# Altium schematic symbol library test point.SchLib: 1 symbol
Pins are listed as number, name and electrical type; pins without a type are passive.

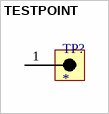
[diagram p0: symbol TESTPOINT]

## TESTPOINT
designator TP?
TEST POINT
footprint TESTPOINT (VERO - 20-2137 - TERMINAL, PCB, BLACK, PK100)
pins: 1